# EAGLE library part CTS219-8LPST (library switch)
SWITCH TAPE SEAL 8 POS SMD
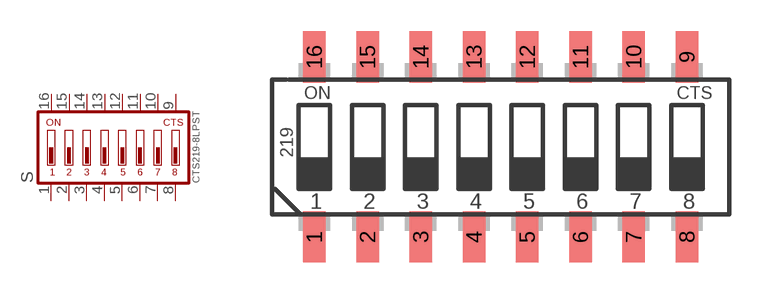
[diagram p1: symbol with the pads of CTS-219-8LPST; footprint CTS-219-8LPST]

Designator prefix S

## CTS219-8LPST (DIGIKEY: CT2198LPST-ND; MFR: CTS Electrocomponents; MPN: 219-8LPST)  [CTS-219-8LPST]
1  1  pas
2  2  pas
3  3  pas
4  4  pas
5  5  pas
6  6  pas
7  7  pas
8  8  pas
9  9  pas
10  10  pas
11  11  pas
12  12  pas
13  13  pas
14  14  pas
15  15  pas
16  16  pas

## Footprint CTS-219-8LPST (pad centres in mm)
smd 1.067 x 2.438: 1 -8.89,-4.3; 2 -6.35,-4.3; 3 -3.81,-4.3; 4 -1.27,-4.3; 5 1.27,-4.3; 6 3.81,-4.3; 7 6.35,-4.3; 8 8.89,-4.3; 9 8.89,4.3; 10 6.35,4.3; 11 3.81,4.3; 12 1.27,4.3; 13 -1.27,4.3; 14 -3.81,4.3; 15 -6.35,4.3; 16 -8.89,4.3